# Altium footprint library 1888-1000-1-ND.PcbLib: 1 footprints
Each footprint in its own frame and in the unit in brackets; x right, y up, seen from the top. Pads: shape width x height; smd on the part's side, far side on the other; paste and mask are expansions set on the pad; w line width, h text height; cw(c..) or ccw(c..) is an arc to the next point about the centre after c.
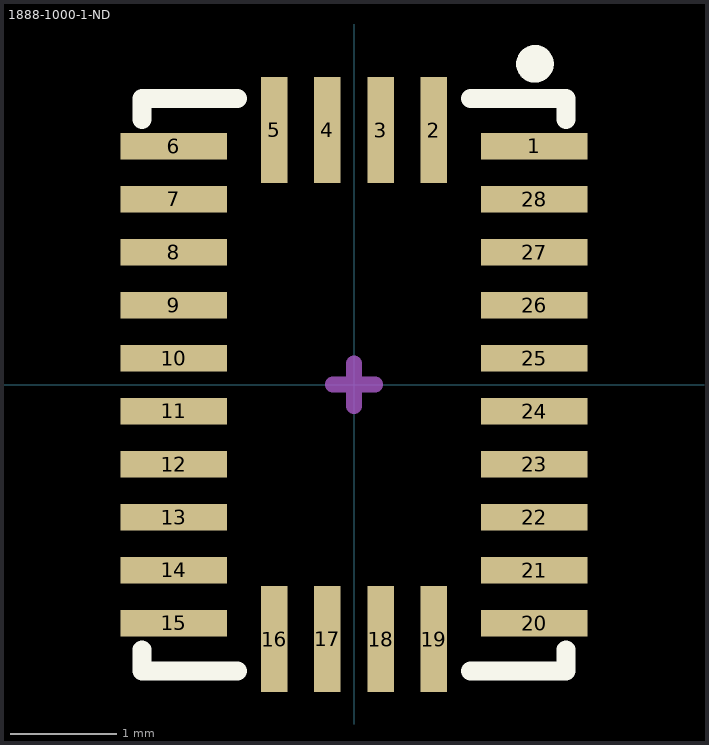
[diagram p0: the footprint, top view; thin cyan lines are the x and y axes]

## 1888-1000-1-ND [mm]
height 1.2
pads (28):
  rect 1x0.25 smd: 1(1.7,2.25) 6(-1.7,2.25) 7(-1.7,1.75) 8(-1.7,1.25) 9(-1.7,0.75) 10(-1.7,0.25) 11(-1.7,-0.25) 12(-1.7,-0.75) 13(-1.7,-1.25) 14(-1.7,-1.75) 15(-1.7,-2.25) 20(1.7,-2.25) 21(1.7,-1.75) 22(1.7,-1.25) 23(1.7,-0.75) 24(1.7,-0.25) 25(1.7,0.25) 26(1.7,0.75) 27(1.7,1.25) 28(1.7,1.75)
  rect 0.25x1 smd: 2(0.75,2.4) 3(0.25,2.4) 4(-0.25,2.4) 5(-0.75,2.4) 16(-0.75,-2.4) 17(-0.25,-2.4) 18(0.25,-2.4) 19(0.75,-2.4)
Top Overlay:
  circle w0.203: c1.706,3.025 r0.076
  lines w0.178: -2,-2.5 -2,-2.7 -1.1,-2.7 ; -2,2.5 -2,2.7 -1.1,2.7 ; 1.1,-2.7 2,-2.7 2,-2.5 ; 1.1,2.7 2,2.7 2,2.5
Top Paste:
  region: -1.902,2.375 -1.2,2.375 -1.2,2.127 -1.902,2.127
  region: -1.901,1.375 -1.2,1.375 -1.2,1.126 -1.901,1.126
  region: -1.903,0.375 -1.2,0.375 -1.2,0.125 -1.903,0.125
  region: -1.904,-0.625 -1.2,-0.625 -1.2,-0.877 -1.904,-0.877
  region: -1.902,-1.625 -1.2,-1.625 -1.2,-1.877 -1.902,-1.877
  region: 0.623,-2.602 0.623,-1.902 0.877,-1.902 0.877,-2.602
  region: -0.377,-2.602 -0.377,-1.901 -0.124,-1.901 -0.124,-2.602
  region: 1.9,-2.379 1.202,-2.379 1.202,-2.125 1.9,-2.125
  region: 1.9,-1.375 1.2,-1.375 1.2,-1.125 1.9,-1.125
  region: 1.9,-0.375 1.201,-0.375 1.201,-0.125 1.9,-0.125
  region: 1.9,0.626 1.202,0.626 1.202,0.875 1.9,0.875
  region: 1.9,1.628 1.202,1.628 1.202,1.875 1.9,1.875
  region: 0.873,2.602 0.873,1.902 0.627,1.902 0.627,2.602
  region: -0.126,2.601 -0.126,1.9 -0.375,1.9 -0.375,2.601
  region: 0.374,2.601 0.374,1.9 0.125,1.9 0.125,2.601
  region: -0.625,2.6 -0.625,1.9 -0.875,1.9 -0.875,2.6
  region: -1.902,1.875 -1.2,1.875 -1.2,1.627 -1.902,1.627
  region: -1.902,0.875 -1.2,0.875 -1.2,0.626 -1.902,0.626
  region: -1.903,-0.125 -1.2,-0.125 -1.2,-0.376 -1.903,-0.376
  region: -1.902,-1.125 -1.2,-1.125 -1.2,-1.376 -1.902,-1.376
  region: -1.901,-2.125 -1.2,-2.125 -1.2,-2.377 -1.901,-2.377
  region: -0.876,-2.601 -0.876,-1.9 -0.625,-1.9 -0.625,-2.601
  region: 0.125,-2.6 0.125,-1.9 0.375,-1.9 0.375,-2.6
  region: 1.9,-1.876 1.201,-1.876 1.201,-1.625 1.9,-1.625
  region: 1.9,-0.875 1.2,-0.875 1.2,-0.625 1.9,-0.625
  region: 1.9,0.125 1.201,0.125 1.201,0.375 1.9,0.375
  region: 1.9,1.125 1.2,1.125 1.2,1.375 1.9,1.375
  region: 1.9,2.125 1.2,2.125 1.2,2.375 1.9,2.375
Mechanical 15:
  lines w0.15: -0.2,0 0.2,0 ; 0,-0.2 0,0.2
3D body: height 1.2, standoff 0, extent -2,-2.7 2,2.7